# EAGLE library part LTC3624 (library template_board)
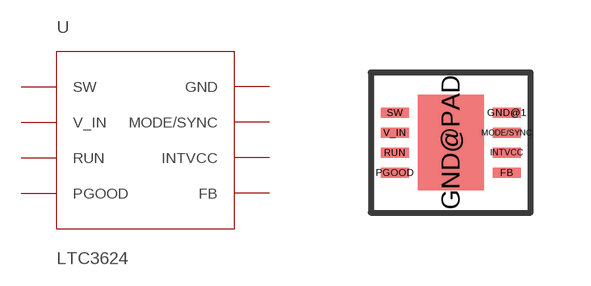
[diagram p28: symbol with the pads of LTC3624; footprint LTC3624]

Designator prefix U

## LTC3624  [LTC3624]
FB  FB
GND@1  GND
GND@PAD  GND
INTVCC  INTVCC
MODE/SYNC  MODE/SYNC
PGOOD  PGOOD
RUN  RUN
SW  SW
V_IN  V_IN

## Footprint LTC3624 (pad centres in mm)
smd 0.7 x 0.25: FB 1.4,-0.75; GND@1 1.4,0.75; INTVCC 1.4,-0.25; MODE/SYNC 1.4,0.25; PGOOD -1.4,-0.75; RUN -1.4,-0.25; SW -1.4,0.75; V_IN -1.4,0.25
smd 1.65 x 2.38: GND@PAD 0,0